# Altium schematic symbol library SnapEDAsch.SchLib: 1 symbol
Pins are listed as number, name and electrical type; pins without a type are passive.

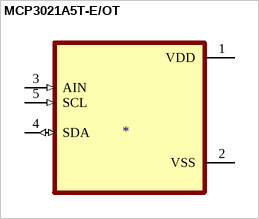
[diagram p0: symbol MCP3021A5T-E/OT]

## MCP3021A5T-E/OT
designator ?
10 Bit Analog to Digital Converter 1 Input 1 SAR SOT-23-5; MP: MCP3021A5T-E/OT; MF: Microchip; Package: SOT-23-5 Microchip; SnapEDA_Link: https://www.snapeda.com/parts/MCP3021A5T-E/OT/Microchip/view-part/47901/?ref=snap; Price: None; Availability: Unavailable; Value: *
footprint SOT95P270X145-5N
pins: 1 VDD (power), 2 VSS (power), 3 AIN (in), 4 SDA (io), 5 SCL (in)